# EAGLE library part CCS811 (library mbed-HDK-IC)
Air Quality Sensors Ultra-Low Power Digital Gas Sensor I2C
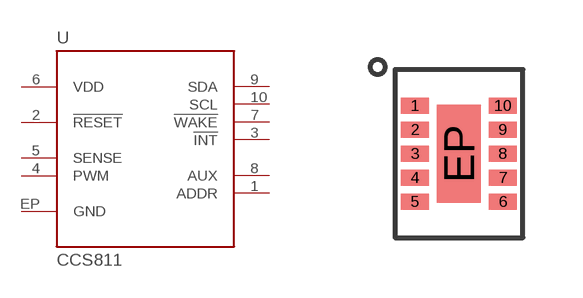
[diagram p19: symbol with the pads of LGA10; footprint LGA10]

Designator prefix U

## CCS811 (MF: ams; MFN: CCS811; OC-DIGIKEY: CCS811CT-ND; OC-NEWARK: 06AC5965)  [LGA10]
1  ADDR
2  !RESET!
3  !INT!
4  PWM
5  SENSE
6  VDD
7  !WAKE!
8  AUX
9  SDA
10  SCL
EP  GND

## Footprint LGA10 (pad centres in mm)
smd 0.7 x 0.4: 1 -1.1,1.2; 2 -1.1,0.6; 3 -1.1,0; 4 -1.1,-0.6; 5 -1.1,-1.2; 6 1.1,-1.2; 7 1.1,-0.6; 8 1.1,0; 9 1.1,0.6; 10 1.1,1.2
smd 1.1 x 2.45: EP 0,0